# Altium footprint library EVQP7B01K.PcbLib: 1 footprints
Each footprint in its own frame and in the unit in brackets; x right, y up, seen from the top. Pads: shape width x height; smd on the part's side, far side on the other; paste and mask are expansions set on the pad; w line width, h text height; cw(c..) or ccw(c..) is an arc to the next point about the centre after c.
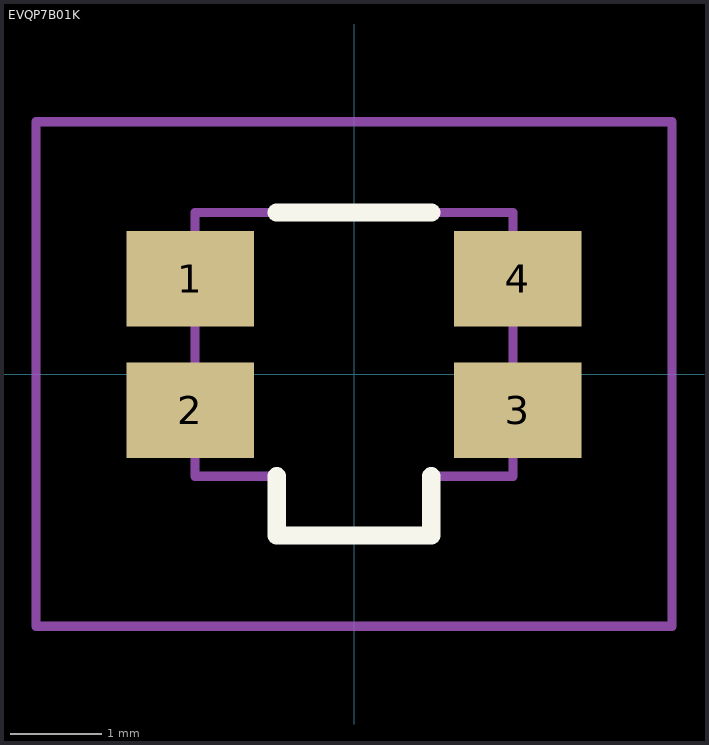
[diagram p0: the footprint, top view; thin cyan lines are the x and y axes]

## EVQP7B01K [mm]
pads (4):
  rect 1.4x1.05 smd: 1(-1.8,1.05) 2(-1.8,-0.4) 3(1.8,-0.4) 4(1.8,1.05)
Top Overlay:
  lines w0.2: -0.85,-1.125 -0.85,-1.775 0.85,-1.775 0.85,-1.125 ; -0.85,1.775 0.85,1.775
Mechanical 15:
  lines w0.1: 1.75,-1.025 1.75,-1.125 ; 1.75,-1.125 1.75,1.775 -1.75,1.775 -1.75,-1.125 -0.85,-1.125 -0.85,-1.775 0.85,-1.775 0.85,-1.125 1.75,-1.125
Mechanical 20:
  lines w0.1: -3.5,-2.775 3.5,-2.775 3.5,2.775 -3.5,2.775 -3.5,-2.775